# EAGLE library part RJ45-BUCHSE (library ++Bedrahtet)
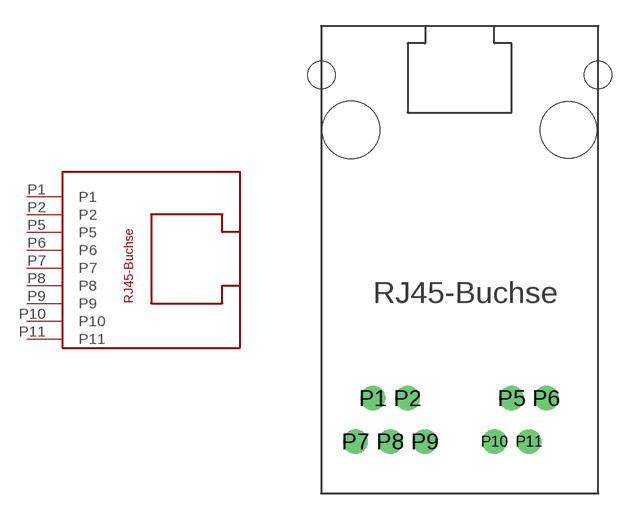
[diagram p16: symbol with the pads of ETHERNETBUCHSE; footprint ETHERNETBUCHSE]

Designator prefix -

## RJ45-BUCHSE  [ETHERNETBUCHSE]
P1  P1
P2  P2
P5  P5
P6  P6
P7  P7
P8  P8
P9  P9
P10  P10
P11  P11

## Footprint ETHERNETBUCHSE (pad centres in mm)
drill 0.9: P1 -5,-8.5; P2 -3,-8.5; P5 3,-8.5; P6 5,-8.5; P7 -6,-11; P8 -4,-11; P9 -2,-11; P10 2,-11; P11 4,-11
hole 3.3 at -6.27,7
hole 3.25 at 6.27,7
hole 1.6 at -7.98,10.18
hole 1.6 at 7.98,10.18